# EAGLE library part 760301305 (library WE-GDTI)
WE-GDTI Gate-Drive-Transformer Characteristics Excellent performance in small package (EP7) 1 or 2 secondary windings 6 Translations 2500 VAC test voltage Basic insulation for operating voltages up to 250 VRMS Applications Suitable for signal and power application Designed for gate drive application high efficient SMPS Synchronous Flyback <https://www.we-online.com/components/media/o727401v209%20multi-WE-GDTI-7603013xx.jpg> Details see: www.we-online.com/components/products/WE-GDTI <www.we-online.com/catalog/WE-GDTI/?utm_source=eagle_model&utm_medium=description_link&utm_campaign=eisos_eagle> Updated by Ella Wu 2025-07-24 2025 (C) Würth Elektronik
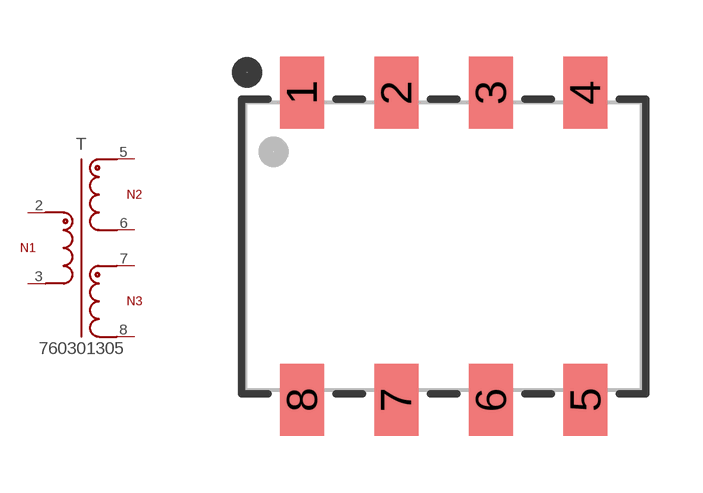
[diagram p1: symbol with the pads of WE-GDTI_EP7; footprint WE-GDTI_EP7]

Designator prefix T

## 760301305 (CWW: 11pF; DATASHEET-URL: https://www.we-online.com/redexpert/spec/760301305?ae; HEIGHT: 11mm; L: 735uH; LENGTH: 10.5mm; LS: 3.5uH; MOUNT: SMT; N: 1.5:1:1; PART-NUMBER: 760301305; SIZE: EP7; VALUE: 735uH; VOLTAGE-USECOND: 99uVs; VT: 2500VAC; WIDTH: 10.5mm)  [WE-GDTI_EP7]
2  2  pas
3  3  pas
5  5  pas
6  6  pas
7  7  pas
8  8  pas

## Footprint WE-GDTI_EP7 (pad centres in mm)
WE-GDTI Gate-Drive-Transformer Size EP7, SMT, 8Pin
smd 1.17 x 1.91: 1 -3.75,4.065; 2 -1.25,4.065; 3 1.25,4.065; 4 3.75,4.065; 5 3.75,-4.065; 6 1.25,-4.065; 7 -1.25,-4.065; 8 -3.75,-4.065